# Altium footprint library IC-Clock-Timing.PcbLib: 1 footprints
Each footprint in its own frame and in the unit in brackets; x right, y up, seen from the top. Pads: shape width x height; smd on the part's side, far side on the other; paste and mask are expansions set on the pad; w line width, h text height; cw(c..) or ccw(c..) is an arc to the next point about the centre after c.
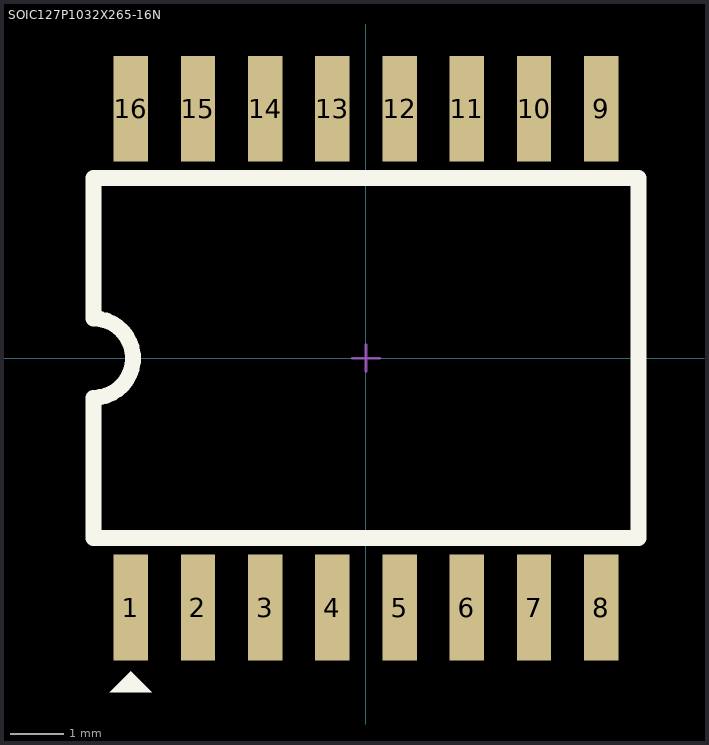
[diagram p0: the footprint, top view; thin cyan lines are the x and y axes]

## SOIC127P1032X265-16N [mm] "SOIC127P1032X265-16N"
pads (16):
  rect 0.65x2 smd: 1(-4.445,-4.712) 2(-3.175,-4.712) 3(-1.905,-4.712) 4(-0.635,-4.712) 5(0.635,-4.712) 6(1.905,-4.712) 7(3.175,-4.712) 8(4.445,-4.712) 9(4.445,4.712) 10(3.175,4.712) 11(1.905,4.712) 12(0.635,4.712) 13(-0.635,4.712) 14(-1.905,4.712) 15(-3.175,4.712) 16(-4.445,4.712)
Top Overlay:
  region: -4.445,-5.912 -4.845,-6.312 -4.045,-6.312
  lines w0.3: -5.15,-3.4 -5.15,-0.748 ccw(c-5.15,0) -5.15,0.748 -5.15,3.4 5.15,3.4 5.15,-3.4 -5.15,-3.4
Top HCB:
  lines w0.05: -0.254,0 0.254,0 ; 0,-0.254 0,0.254
3D body "SOIC16 wide.stp": height 2, standoff 0, extent -5.04,-5.082 5.04,5.081